# Altium integrated library DHS.IntLib: 17 symbols
Pins are listed as number, name and electrical type; pins without a type are passive.

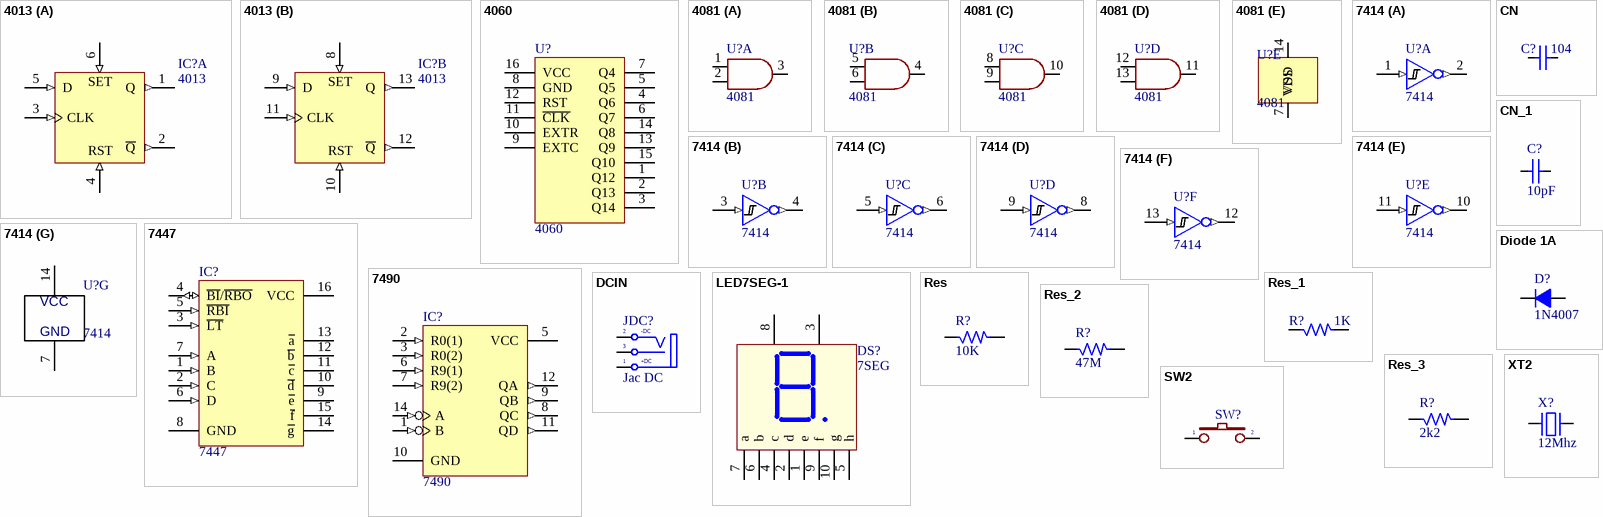
[diagram p0: symbols 4013 to XT2]

## 4013
designator IC?
Dual D-Type Flip-Flop; Creat by: VanDungEvn@Gmail.com
footprint DIP14
footprint SO14
pins on every part: 7 GND (power) hidden to GND, 14 VDD (power) hidden to VDD
part A pins: 1 Q (out), 2 ~{Q} (out), 3 CLK (in), 4 RST (in), 5 D (in), 6 S (in)
part B pins: 8 S (in), 9 D (in), 10 RST (in), 11 CLK (in), 12 ~{Q} (out), 13 Q (out)
part A text: SET
part B text: SET

## 4060
designator U?
footprint DIP16 (16 PIN, W 300mil, Pin to pin 100mil)
pins: 1 Q12, 2 Q13, 3 Q14, 4 Q6, 5 Q5, 6 Q7, 7 Q4, 8 GND, 9 EXTC, 10 EXTR, 11 ~{CLK}, 12 RST, 13 Q9, 14 Q8, 15 Q10, 16 VCC

## 4081
designator U?
AND LOGIC
footprint DIP14 (W.300/L.900)
part A pins: 1, 2, 3
part B pins: 4, 5, 6
part C pins: 8, 9, 10
part D pins: 11, 12, 13
part E pins: 7 VSS, 14 VDD

## 7414
designator U?
IC, M74HC04M, Hex Inverter, SO-14; Text Field1: ST; Text Field2: M74HC04M1R; Text Field3: Mouser; Text Field4: 511-M74HC04M; Text Field6: .22; Text Field5: SO-14; NI?: *; O?: *; Section:: *
footprint SO14 (SOIC, 14-Leads, Body 8.60x3.90mm, Pitch 1.27mm, IPC Medium Density)
footprint DIP14
footprint TSSOP14 (TSSOP, 14-Leads, Body 5.00x4.40mm, Pitch 0.65mm, IPC High Density)
part A pins: 1 A (in), 2 Y (out)
part B pins: 3 A (in), 4 Y (out)
part C pins: 5 A (in), 6 Y (out)
part D pins: 8 Y (out), 9 A (in)
part E pins: 10 Y (out), 11 A (in)
part F pins: 12 Y (out), 13 A (in)
part G pins: 7 GND, 14 VCC

## 7447
designator IC?
BCD to 7-Segment Decoder/Driver; Value: 7447 , 74247
footprint DIP16
footprint SO16 (SOIC, 16-Leads, Body 9.90x3.91mm, Pitch 1.27mm, IPC Medium Density)
pins: 1 B (in), 2 C (in), 3 ~{LT} (in), 4 ~{BI}/~{RBO} (io), 5 ~{RBI} (in), 6 D (in), 7 A (in), 8 GND (power), 9 ~{e} (oc), 10 ~{d} (oc), 11 ~{c} (oc), 12 ~{b} (oc), 13 ~{a} (oc), 14 ~{g} (oc), 15 ~{f} (oc), 16 VCC (power)

## 7490
designator IC?
4-Bit Decade Counter; Value: 7490
footprint DIP14
pins: 1 B (in), 2 R0(1) (in), 3 R0(2) (in), 5 VCC (power), 6 R9(1) (in), 7 R9(2) (in), 8 QC (out), 9 QB (out), 10 GND (power), 11 QD (out), 12 QA (out), 14 A (in)

## CN
designator C?, comment 104
Capacitor
footprint Cap 7.5mm
footprint Cap 2.54mm
footprint Cap 3.81mm
footprint Cap 5.08mm
footprint Cap 6.35mm (Tu pin to pin 250mil)
footprint Cap 10mm (Cap np W 0.4)
footprint Cap 15mm
footprint Cap 15mm CBB
footprint Cap 22.5mm
pins: 1, 2

## CN_1
designator C?, comment 10pF
Capacitor
footprint Cap 7.5mm
footprint Cap 2.54mm
footprint Cap 3.81mm
footprint Cap 5.08mm
footprint Cap 6.35mm (Tu pin to pin 250mil)
footprint Cap 10mm (Cap np W 0.4)
footprint Cap 15mm
footprint Cap 15mm CBB
footprint Cap 22.5mm
pins: 1, 2

## DCIN
designator JDC?, comment Jac DC
Jac DC input; Value: Jac DC
footprint DC0 (Jac DC input)
footprint DC1 (WR-DC_DC Power Jack_Right Angled_THT Center Pin ?0.65_Plug ID ?0.75_Plug OD ?2.35_with Peg)
footprint DC2 (WR-DC_DC Power Jack_Vertical_THT WR-DC_DC Power Jack_Vertical_THT)
footprint DC3 (WR-DC_DC Power Jack_Vertical_THT Center Pin ?2.5_Plug ID ?2.55_Plug OD ?5.5)
footprint DC4 (WR-DC_DC Power Jack_Right Angled_THT Center Pin ?1.0_Plug ID ?1.05_Plug OD ?3.5_with Peg)
footprint DC5 (WR-DC_DC Power Jack_Right Angled_THT Center Pin ?1.3_Plug ID ?1.35_Plug OD ?3.5_with Peg)
pins: 1 T "Tip", 2 TN "Tip Normal (Break Contact)", 3 S (power) "Sleeve (Ground)"
text: -DC; +DC

## Diode 1A
designator D?, comment 1N4007
Diode 1A 1N4007 DO-41
footprint DO-41 (Diode 1A)
footprint DO-41 Axial (Diode 1A Axial)
pins: 1 A, 2 K

## LED7SEG-1
designator DS?, comment 7SEG
14.2 mm General Purpose Blue 7-Segment Display: CC, RH DP, Gray Surface; MinimumIntensity: 2020 ucd; Note: IF = 10 mA; Published: 8-Jun-2000; LatestRevisionDate: 17-Dec-2003; LatestRevisionNote: Schematic revised, PCB Footprint replaced.; DatasheetDocument: 24-Sep-2002; PackageDocument: 24-Sep-2002; PackageReference: H; Publisher: Altium Limited; Colour: Blue; ComponentLink1Description: Manufacturer Link; ComponentLink1URL: http://www.agilent.com/
footprint LED7SEG-1-0.56
footprint LED7SEG-1-1.5
pins: 1 e, 2 d, 3 Vcc, 4 c, 5 h, 6 b, 7 a, 8 Vcc, 9 f, 10 g

## Res
designator R?, comment 10K
footprint RES-1/4W
footprint R2W (R2W, 2 pin, 700mil)
footprint R2WD (R2W, 2 pin, 150mil)
pins: 1, 2

## Res_1
designator R?, comment 1K
footprint RES-1/4W
footprint R2W (R2W, 2 pin, 700mil)
footprint R2WD (R2W, 2 pin, 150mil)
pins: 1, 2

## Res_2
designator R?, comment 47M
footprint RES-1/4W
footprint R2W (R2W, 2 pin, 700mil)
footprint R2WD (R2W, 2 pin, 150mil)
pins: 1, 2

## Res_3
designator R?, comment 2k2
footprint RES-1/4W
footprint R2W (R2W, 2 pin, 700mil)
footprint R2WD (R2W, 2 pin, 150mil)
pins: 1, 2

## SW2
designator SW?, comment SW  (value not drawn)
Switch button 2 pin; Value: SW chip 2 pin
footprint SW2 6x6mm (SW button 2pin, 250x 250 mil)
footprint SW2_D (SW button 2pin, 300x 300 x 250 mil)
footprint SW2 6x6MM Circle (SW button 2pin, 250x 250 mil 6x6mm)
pins: 1, 2

## XT2
designator X?, comment 12Mhz
Crystal, 32.768 KHz, -40 to 85 degC, 3.2 x 1.5 x 0.9 mm SMD; Value: 4Mhz
footprint XT2 (Footpin for Crystal 2 pin)
footprint XT2N (Crystal 2pin, high 200 mil)
footprint XT2-L (Footpin for Crystal 2 pin)
footprint XT32k
footprint XT2-SMD
footprint XTAL-RU49/4
footprint XT2-32.768KHz-2_V (Hand Drawn, 2-Leads, Body 3.2x1.5mm, Pitch 2.5mm)
pins: 1, 2